# EAGLE library part DF12A3.0-14DS (library adjacent-reality)
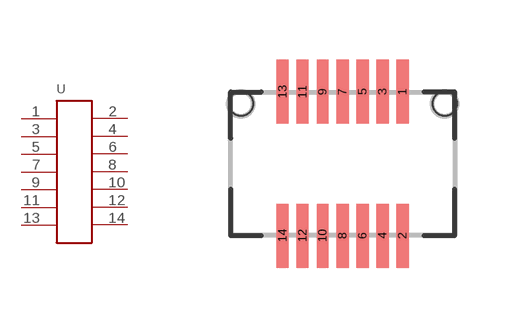
[diagram p12: symbol with the pads of DF12A3.0-14DS; footprint DF12A3.0-14DS]

Designator prefix -

## DF12A3.0-14DS  [DF12A3.0-14DS]
1  1
2  2
3  3
4  4
5  5
6  6
7  7
8  8
9  9
10  10
11  11
12  12
13  13
14  14

## Footprint DF12A3.0-14DS (pad centres in mm)
smd 0.3 x 1.6: 1 1.5,1.8; 2 1.5,-1.8; 3 1,1.8; 4 1,-1.8; 5 0.5,1.8; 6 0.5,-1.8; 7 0,1.8; 8 0,-1.8; 9 -0.5,1.8; 10 -0.5,-1.8; 11 -1,1.8; 12 -1,-1.8; 13 -1.5,1.8; 14 -1.5,-1.8
hole 0.6 at -2.55,1.5
hole 0.6 at 2.55,1.5